# Altium schematic symbol library Generic-3x1-Male.SchLib: 1 symbol
Pins are listed as number, name and electrical type; pins without a type are passive.

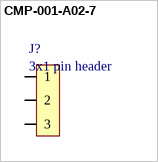
[diagram p0: symbol CMP-001-A02-7]

## CMP-001-A02-7
designator J?, comment 3x1 pin header
2.54mm pitch
footprint Pin Header 1x3 TH Pitch 2.54mm (PinHeader 1x3 TH Pitch 2.54mm)
pins: 1, 2, 3